# Altium schematic symbol library Capacitors.SchLib: 7 symbols
Pins are listed as number, name and electrical type; pins without a type are passive.

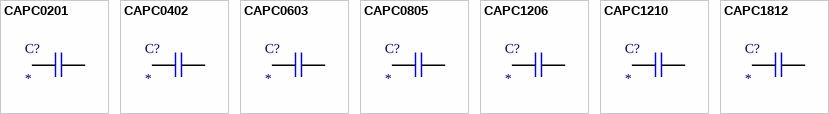
[diagram p0: symbols CAPC0201 to CAPC1812]

## CAPC0201
designator C?
Capacitor 0201 (0.6x0.3mm)
footprint CAPC0201 (Capacitor 0201 (0.6x0.3mm))
pins: 1, 2

## CAPC0402
designator C?
Capacitor 0402 (1.0x0.5mm)
footprint CAPC0402 (Capacitor 0402 (1.0x0.5mm))
pins: 1, 2

## CAPC0603
designator C?
Capacitor 0603 (1.5x0.8mm)
footprint CAPC0603 (Capacitor 0603 (1.5x0.8mm))
pins: 1, 2

## CAPC0805
designator C?
Capacitor 0805 (2.0x1.2mm)
footprint CAPC0805 (Capacitor 0805 (2.0x1.2mm))
pins: 1, 2

## CAPC1206
designator C?
Capacitor 1206 (3.2x1.6mm)
footprint CAPC1206 (Capacitor 1206 (3.2x1.6mm))
pins: 1, 2

## CAPC1210
designator C?
Capacitor 1210 (3.2x2.5mm)
footprint CAPC1210 (Capacitor 1210 (3.2x2.5mm))
pins: 1, 2

## CAPC1812
designator C?
Capacitor 1812 (4.5x3.2mm)
footprint CAPC1812 (Capacitor 1812 (4.5x3.2mm))
pins: 1, 2